# Altium schematic symbol library Conn_Schlib.SchLib: 5 symbols
Pins are listed as number, name and electrical type; pins without a type are passive.

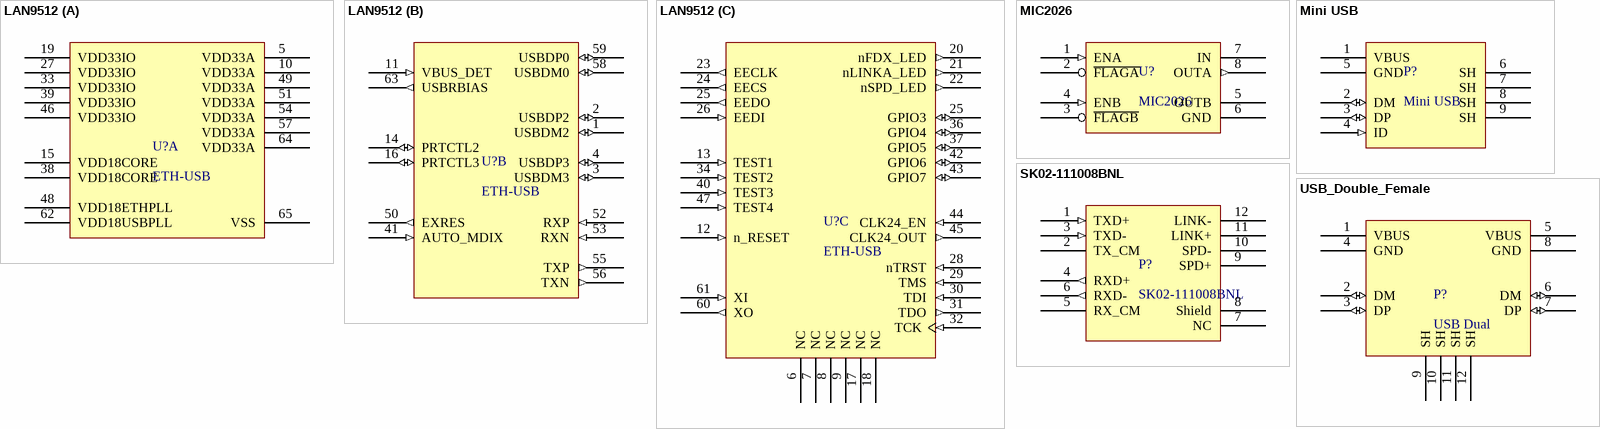
[diagram p0: symbols LAN9512 to USB_Double_Female]

## LAN9512
designator U?, comment ETH-USB
USB Hub to LAN connevtor
footprint QFN64 (QFN, 64-Leads, Body 9.00x9.00mm, Pitch 0.50mm, Thermal Pad 7.30x7.30mm, IPC Medium Density)
part A pins: 5 VDD33A (power), 10 VDD33A (power), 15 VDD18CORE (power), 19 VDD33IO (power), 27 VDD33IO (power), 33 VDD33IO (power), 38 VDD18CORE (power), 39 VDD33IO (power), 46 VDD33IO (power), 48 VDD18ETHPLL (power), 49 VDD33A (power), 51 VDD33A (power), 54 VDD33A (power), 57 VDD33A (power), 62 VDD18USBPLL (power), 64 VDD33A (power), 65 VSS (power)
part B pins: 1 USBDM2 (io), 2 USBDP2 (io), 3 USBDM3 (io), 4 USBDP3 (io), 11 VBUS_DET (in), 14 PRTCTL2 (io), 16 PRTCTL3 (io), 41 AUTO_MDIX (in), 50 EXRES (out), 52 RXP (in), 53 RXN (in), 55 TXP (out), 56 TXN (out), 58 USBDM0 (io), 59 USBDP0 (io), 63 USBRBIAS (out)
part C pins: 6 NC, 7 NC, 8 NC, 9 NC, 12 n_RESET (in), 13 TEST1 (in), 17 NC, 18 NC, 20 nFDX_LED (out), 21 nLINKA_LED (out), 22 nSPD_LED (out), 23 EECLK (out), 24 EECS (out), 25 EEDO (out), 25 GPIO3 (io), 26 EEDI (in), 28 nTRST (in), 29 TMS (in), 30 TDI (in), 31 TDO (out), 32 TCK (in), 34 TEST2 (in), 36 GPIO4 (io), 37 GPIO5 (io), 40 TEST3 (in), 42 GPIO6 (io), 43 GPIO7 (io), 44 CLK24_EN (in), 45 CLK24_OUT (out), 47 TEST4 (in), 60 XO (out), 61 XI (in)

## MIC2026
designator U?
footprint SSOP8
pins: 1 ENA (in), 2 ~{FLAGA} (power), 3 ~{FLAGB}, 4 ENB (in), 5 OUTB (power), 6 GND (power), 7 IN (power), 8 OUTA (out)

## Mini USB
designator P?
footprint Mini USB
pins: 1 VBUS (power), 2 DM (io), 3 DP (io), 4 ID (in), 5 GND (power), 6 SH, 7 SH, 8 SH, 9 SH

## SK02-111008BNL
designator P?
Ethernet
footprint RJ45+MAG
pins: 1 TXD+ (in), 2 TX_CM (power), 3 TXD- (in), 4 RXD+ (out), 5 RX_CM (power), 6 RXD- (out), 7 NC, 8 Shield, 9 SPD+ (power), 10 SPD- (power), 11 LINK+ (power), 12 LINK- (power)

## USB_Double_Female
designator P?, comment USB Dual
footprint USB_Duble
pins: 1 VBUS (power), 2 DM (io), 3 DP (io), 4 GND (power), 5 VBUS (power), 6 DM (io), 7 DP (io), 8 GND (power), 9 SH, 10 SH, 11 SH, 12 SH